# Altium integrated library TPS62933ODRLR.IntLib: 2 symbols
Pins are listed as number, name and electrical type; pins without a type are passive.

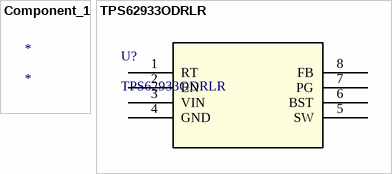
[diagram p0: symbols Component_1 to TPS62933ODRLR]

## Component_1
designator *

## TPS62933ODRLR
designator U?
No Description Available; Mfr_Name: Texas Instruments; Copyright: Copyright (C) 2024 Ultra Librarian. All rights reserved.; Manufacturer_Part_Number: TPS62933ODRLR; RefDes: RefDes; Type: DEV
footprint SOT5X3-8_DRL_TEX
pins: 1 RT, 2 EN, 3 VIN (power), 4 GND (power), 5 SW (power), 6 BST (power), 7 PG, 8 FB